# Altium integrated library LD033C153KAB2A.IntLib: 1 symbol
Pins are listed as number, name and electrical type; pins without a type are passive.

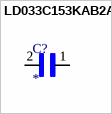
[diagram p0: symbol LD033C153KAB2A]

## LD033C153KAB2A
designator C?
Cap Ceramic 0.015uF 25V X7R 10% SMD 0603 125ÂÂŽ T/R; MP: LD033C153KAB2A; Package: None; Price: None; Value: *; Availability: Unavailable
footprint CAPC1608X90
pins: 1, 2